# EAGLE library part FSA4157 (library _RoweTel)
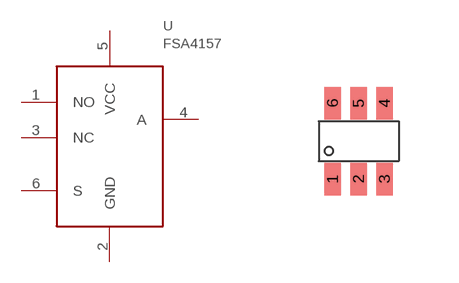
[diagram p13: symbol with the pads of SC70; footprint SC70]

Designator prefix U

## FSA4157  [SC70]
1  NO
2  GND
3  NC
4  A
5  VCC
6  S

## Footprint SC70 (pad centres in mm)
smd 0.406 x 0.813: 1 -0.65,-0.95; 2 0,-0.95; 3 0.65,-0.95; 4 0.65,0.95; 5 0,0.95; 6 -0.65,0.95